# EAGLE library part PINHD-2X14 (library pinhead)
PIN HEADER
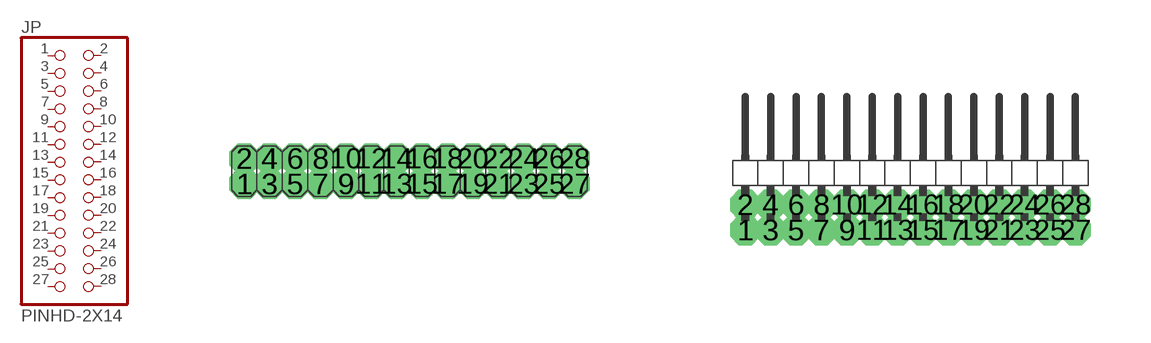
[diagram p31: symbol with the pads of 2X14; footprints 2X14, 2X14/90]

Designator prefix JP

## PINHD-2X14  [2X14]
1  1  pas
2  2  pas
3  3  pas
4  4  pas
5  5  pas
6  6  pas
7  7  pas
8  8  pas
9  9  pas
10  10  pas
11  11  pas
12  12  pas
13  13  pas
14  14  pas
15  15  pas
16  16  pas
17  17  pas
18  18  pas
19  19  pas
20  20  pas
21  21  pas
22  22  pas
23  23  pas
24  24  pas
25  25  pas
26  26  pas
27  27  pas
28  28  pas

## PINHD-2X14/90  [2X14/90]
Pads as for 2X14

## Footprint 2X14 (pad centres in mm)
PIN HEADER
drill 0.254 octagon: 1 -4.128,-0.318; 2 -4.128,0.318; 3 -3.493,-0.318; 4 -3.493,0.318; 5 -2.857,-0.318; 6 -2.857,0.318; 7 -2.223,-0.318; 8 -2.223,0.318; 9 -1.587,-0.318; 10 -1.587,0.318; 11 -0.953,-0.318; 12 -0.953,0.318; 13 -0.318,-0.318; 14 -0.318,0.318; 15 0.318,-0.318; 16 0.318,0.318; 17 0.953,-0.318; 18 0.953,0.318; 19 1.587,-0.318; 20 1.587,0.318; 21 2.223,-0.318; 22 2.223,0.318; 23 2.857,-0.318; 24 2.857,0.318; 25 3.493,-0.318; 26 3.493,0.318; 27 4.128,-0.318; 28 4.128,0.318

## Footprint 2X14/90 (pad centres in mm)
PIN HEADER
drill 0.254 octagon: 1 -4.128,-1.587; 2 -4.128,-0.953; 3 -3.493,-1.587; 4 -3.493,-0.953; 5 -2.857,-1.587; 6 -2.857,-0.953; 7 -2.223,-1.587; 8 -2.223,-0.953; 9 -1.587,-1.587; 10 -1.587,-0.953; 11 -0.953,-1.587; 12 -0.953,-0.953; 13 -0.318,-1.587; 14 -0.318,-0.953; 15 0.318,-1.587; 16 0.318,-0.953; 17 0.953,-1.587; 18 0.953,-0.953; 19 1.587,-1.587; 20 1.587,-0.953; 21 2.223,-1.587; 22 2.223,-0.953; 23 2.857,-1.587; 24 2.857,-0.953; 25 3.493,-1.587; 26 3.493,-0.953; 27 4.128,-1.587; 28 4.128,-0.953